# EAGLE library part TEXAS_INSTRUMENTS-MICROCONTROLLER-MSP430FR2355IPT (library Module_ICs)
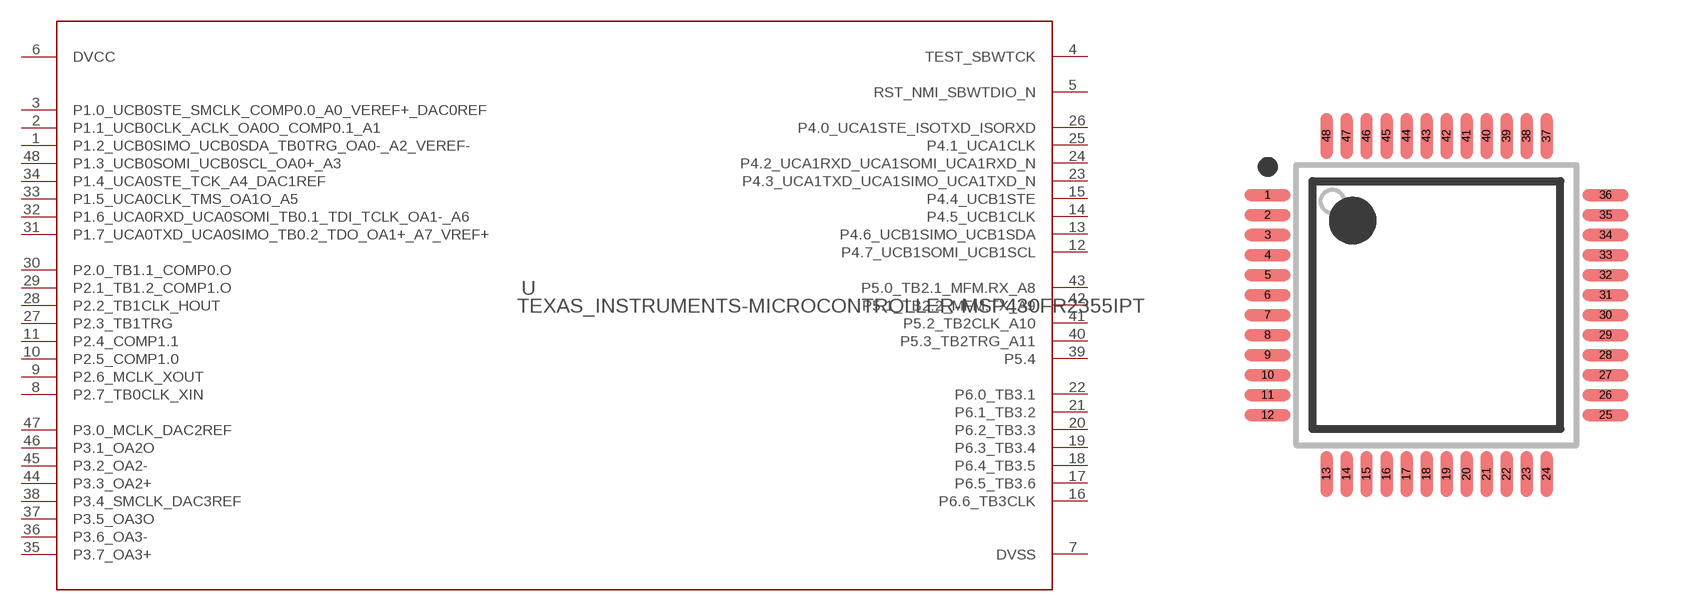
[diagram p23: symbol with the pads of TEXAS_INSTRUMENTS-MICROCONTROLLER-MSP430FR2355IPT/MSP430FR2475TPTR; footprint TEXAS_INSTRUMENTS-MICROCONTROLLER-MSP430FR2355IPT/MSP430FR2475TPTR]

Designator prefix U

## TEXAS_INSTRUMENTS-MICROCONTROLLER-MSP430FR2355IPT (MANUFACTURER: Texas Instruments; PARTNUMBER: MSP430FR2355IPT; REFDES: RefDes; TYPE: TYPE; VALUE: Value)  [TEXAS_INSTRUMENTS-MICROCONTROLLER-MSP430FR2355IPT/MSP430FR2475TPTR]
1  P1.2_UCB0SIMO_UCB0SDA_TB0TRG_OA0-_A2_VEREF-
2  P1.1_UCB0CLK_ACLK_OA0O_COMP0.1_A1
3  P1.0_UCB0STE_SMCLK_COMP0.0_A0_VEREF+_DAC0REF
4  TEST_SBWTCK  in
5  RST_NMI_SBWTDIO_N
6  DVCC  pwr
7  DVSS  pwr
8  P2.7_TB0CLK_XIN
9  P2.6_MCLK_XOUT
10  P2.5_COMP1.0
11  P2.4_COMP1.1
12  P4.7_UCB1SOMI_UCB1SCL
13  P4.6_UCB1SIMO_UCB1SDA
14  P4.5_UCB1CLK
15  P4.4_UCB1STE
16  P6.6_TB3CLK
17  P6.5_TB3.6
18  P6.4_TB3.5
19  P6.3_TB3.4
20  P6.2_TB3.3
21  P6.1_TB3.2
22  P6.0_TB3.1
23  P4.3_UCA1TXD_UCA1SIMO_UCA1TXD_N
24  P4.2_UCA1RXD_UCA1SOMI_UCA1RXD_N
25  P4.1_UCA1CLK
26  P4.0_UCA1STE_ISOTXD_ISORXD
27  P2.3_TB1TRG
28  P2.2_TB1CLK_HOUT
29  P2.1_TB1.2_COMP1.O
30  P2.0_TB1.1_COMP0.O
31  P1.7_UCA0TXD_UCA0SIMO_TB0.2_TDO_OA1+_A7_VREF+
32  P1.6_UCA0RXD_UCA0SOMI_TB0.1_TDI_TCLK_OA1-_A6
33  P1.5_UCA0CLK_TMS_OA1O_A5
34  P1.4_UCA0STE_TCK_A4_DAC1REF
35  P3.7_OA3+
36  P3.6_OA3-
37  P3.5_OA3O
38  P3.4_SMCLK_DAC3REF
39  P5.4
40  P5.3_TB2TRG_A11
41  P5.2_TB2CLK_A10
42  P5.1_TB2.2_MFM.TX_A9
43  P5.0_TB2.1_MFM.RX_A8
44  P3.3_OA2+
45  P3.2_OA2-
46  P3.1_OA2O
47  P3.0_MCLK_DAC2REF
48  P1.3_UCB0SOMI_UCB0SCL_OA0+_A3

## Footprint TEXAS_INSTRUMENTS-MICROCONTROLLER-MSP430FR2355IPT/MSP430FR2475TPTR (pad centres in mm)
smd 1.15 x 0.3: 1 -4.225,2.75; 2 -4.225,2.25; 3 -4.225,1.75; 4 -4.225,1.25; 5 -4.225,0.75; 6 -4.225,0.25; 7 -4.225,-0.25; 8 -4.225,-0.75; 9 -4.225,-1.25; 10 -4.225,-1.75; 11 -4.225,-2.25; 12 -4.225,-2.75; 25 4.225,-2.75; 26 4.225,-2.25; 27 4.225,-1.75; 28 4.225,-1.25; 29 4.225,-0.75; 30 4.225,-0.25; 31 4.225,0.25; 32 4.225,0.75; 33 4.225,1.25; 34 4.225,1.75; 35 4.225,2.25; 36 4.225,2.75
smd 0.3 x 1.15: 13 -2.75,-4.225; 14 -2.25,-4.225; 15 -1.75,-4.225; 16 -1.25,-4.225; 17 -0.75,-4.225; 18 -0.25,-4.225; 19 0.25,-4.225; 20 0.75,-4.225; 21 1.25,-4.225; 22 1.75,-4.225; 23 2.25,-4.225; 24 2.75,-4.225; 37 2.75,4.225; 38 2.25,4.225; 39 1.75,4.225; 40 1.25,4.225; 41 0.75,4.225; 42 0.25,4.225; 43 -0.25,4.225; 44 -0.75,4.225; 45 -1.25,4.225; 46 -1.75,4.225; 47 -2.25,4.225; 48 -2.75,4.225